# Altium footprint library QFN-20.PcbLib: 1 footprints
Each footprint in its own frame and in the unit in brackets; x right, y up, seen from the top. Pads: shape width x height; smd on the part's side, far side on the other; paste and mask are expansions set on the pad; w line width, h text height; cw(c..) or ccw(c..) is an arc to the next point about the centre after c.
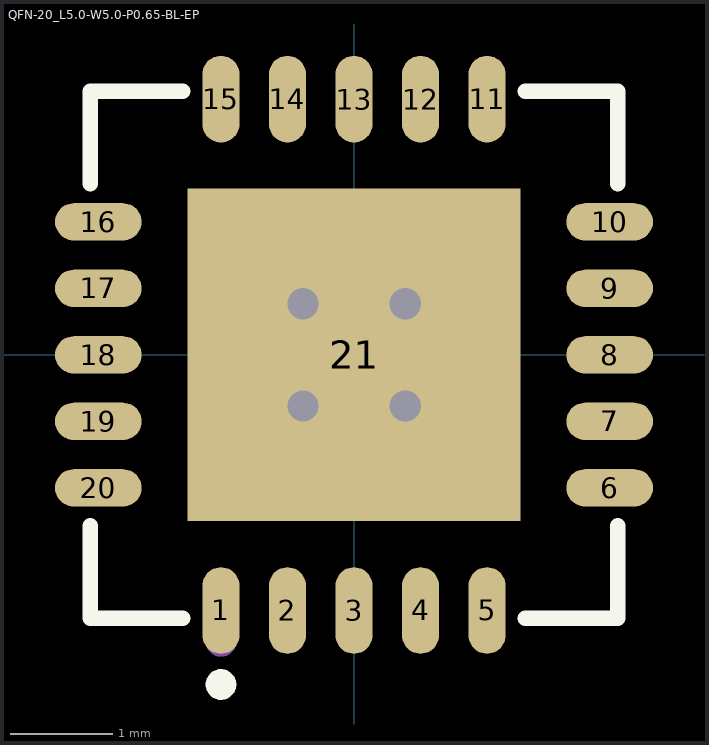
[diagram p0: the footprint, top view; thin cyan lines are the x and y axes]

## QFN-20_L5.0-W5.0-P0.65-BL-EP [mm]
pads (21):
  oval 0.364x0.847 smd paste+0 mask+0.051: 1(-1.3,-2.498) 2(-0.65,-2.498) 3(0,-2.498) 4(0.65,-2.498) 5(1.3,-2.498) 11(1.3,2.498) 12(0.65,2.498) 13(0,2.498) 14(-0.65,2.498) 15(-1.3,2.498)
  oval 0.847x0.364 smd paste+0 mask+0.051: 6(2.498,-1.3) 7(2.498,-0.65) 8(2.498,0) 9(2.498,0.65) 10(2.498,1.3) 16(-2.498,1.3) 17(-2.498,0.65) 18(-2.498,0) 19(-2.498,-0.65) 20(-2.498,-1.3)
  rect 3.25x3.25 smd paste+0 mask+0.051: 21(0,0)
via -0.5,-0.5 diameter 0.61 hole 0.305
via -0.5,0.5 diameter 0.61 hole 0.305
via 0.5,0.5 diameter 0.61 hole 0.305
via 0.5,-0.5 diameter 0.61 hole 0.305
Top Overlay:
  circle w0.15: c-1.3,-3.222 r0.075
  lines w0.152: -2.576,-1.672 -2.576,-2.576 -1.672,-2.576 ; -2.576,1.672 -2.576,2.576 -1.672,2.576 ; 1.672,-2.576 2.576,-2.576 2.576,-1.672 ; 1.672,2.576 2.576,2.576 2.576,1.672
Mechanical 15:
  circle w0.15: c-1.3,-2.8 r0.075